# Altium footprint library KOSTAL_1004595.PcbLib: 1 footprints
Each footprint in its own frame and in the unit in brackets; x right, y up, seen from the top. Pads: shape width x height; smd on the part's side, far side on the other; paste and mask are expansions set on the pad; w line width, h text height; cw(c..) or ccw(c..) is an arc to the next point about the centre after c.
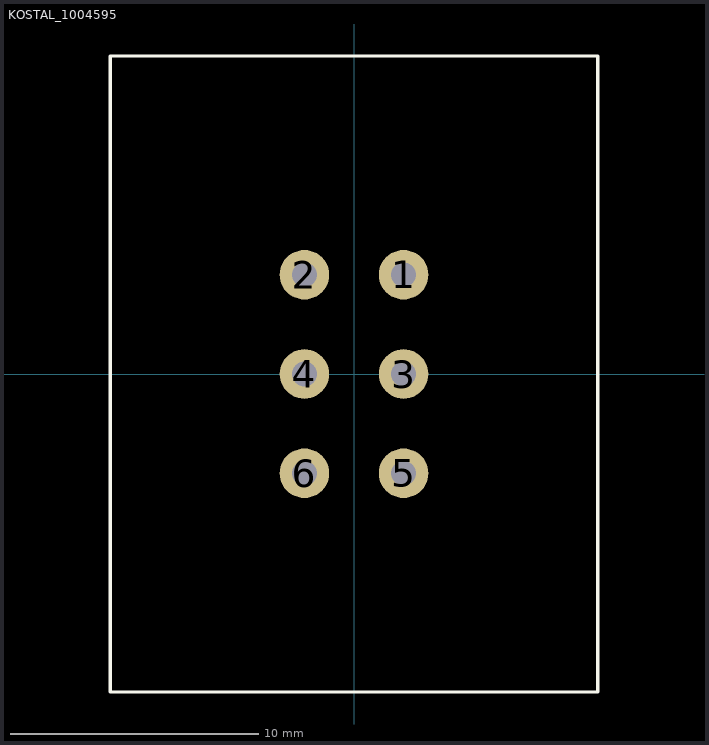
[diagram p0: the footprint, top view; thin cyan lines are the x and y axes]

## KOSTAL_1004595 [mm] "KOSTAL Automotive Connector 2x3 Pin"
height 26
pads (6):
  round 2 hole 1: 1(2,4) 2(-2,4) 3(2,0) 4(-2,0) 5(2,-4) 6(-2,-4)
Top Overlay:
  lines w0.125: -9.825,-12.825 -9.825,12.825 9.825,12.825 9.825,-12.825 -9.825,-12.825